# Altium footprint library Control_Board_Model_C201.PcbLib: 124 footprints (part 4 of 8)
Each footprint in its own frame and in the unit in brackets; x right, y up, seen from the top. Pads: shape width x height; smd on the part's side, far side on the other; paste and mask are expansions set on the pad; w line width, h text height; cw(c..) or ccw(c..) is an arc to the next point about the centre after c.
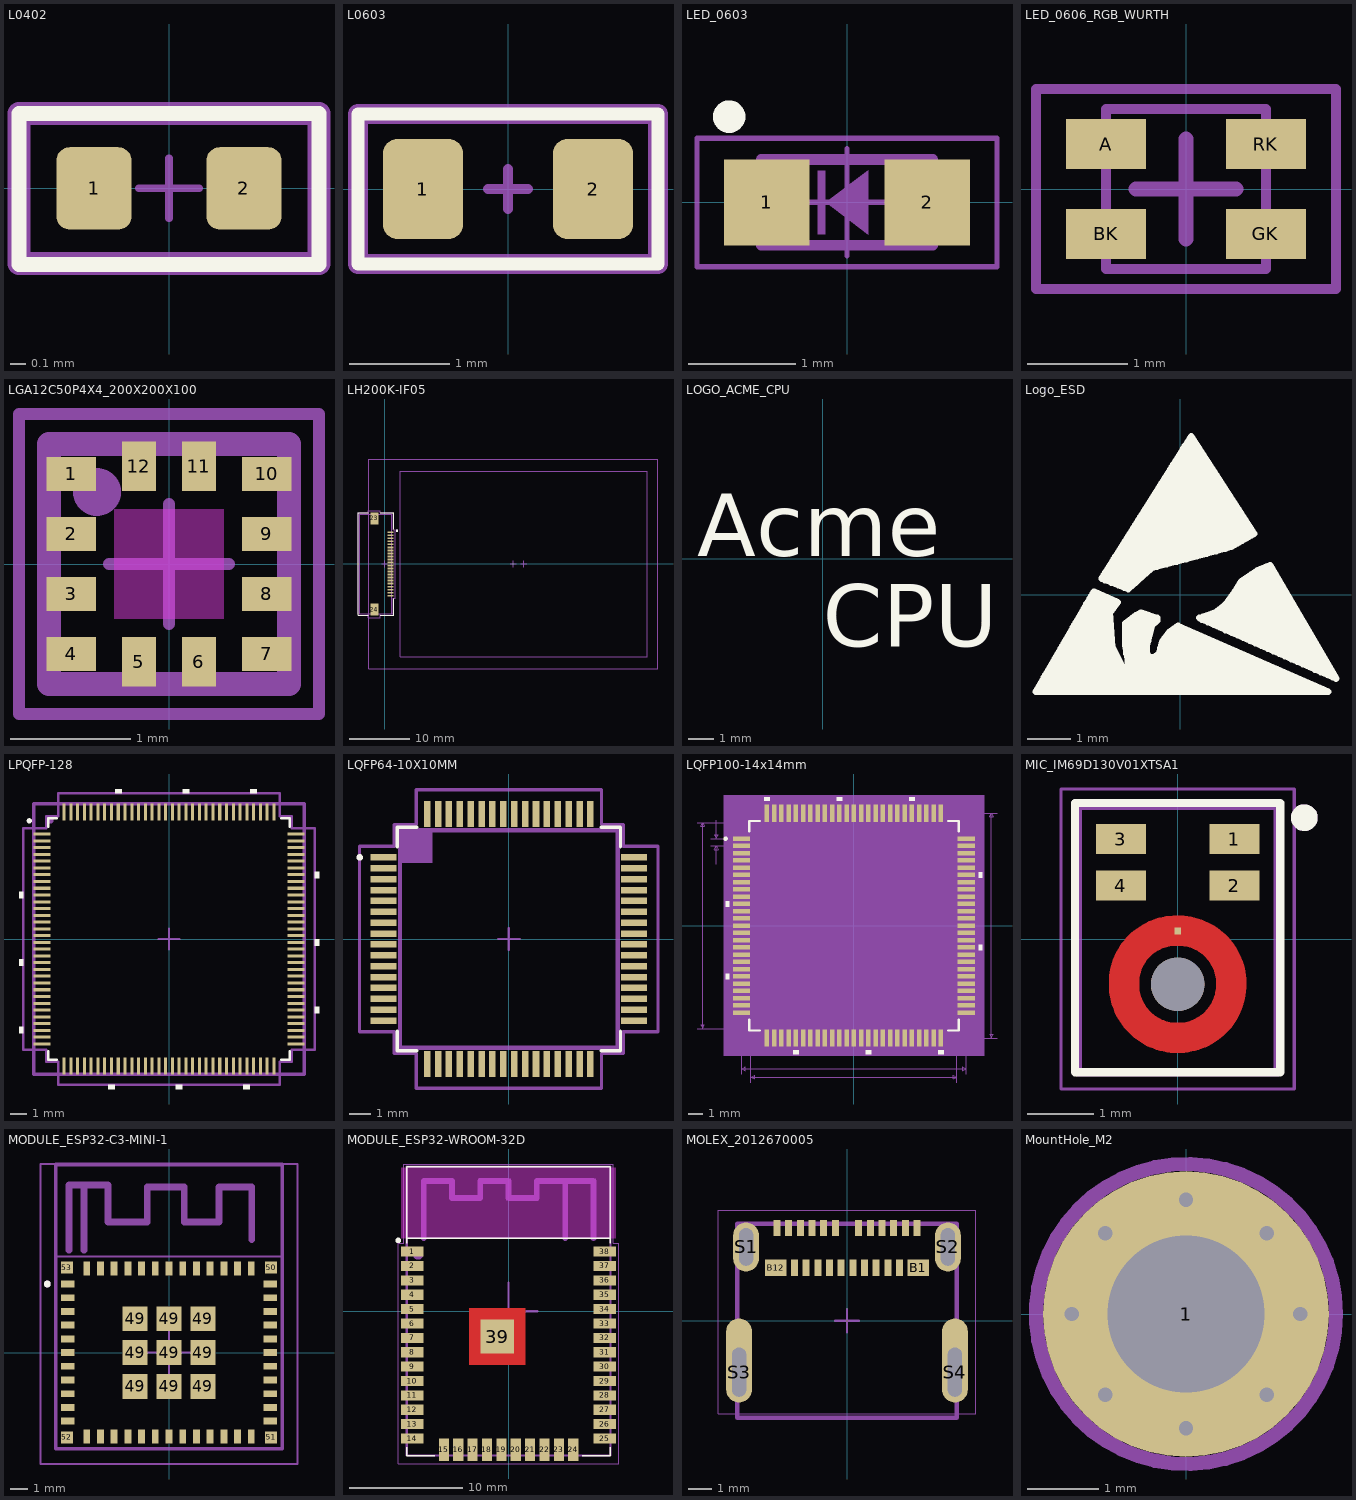
[diagram p3: the footprints below, top view; thin cyan lines are the x and y axes]

## L0402 [mm]
height 0.5
pads (2):
  rrect35% 0.5x0.55 smd: 1(-0.5,0) 2(0.5,0)
Top Overlay:
  lines w0.1: -1,-0.508 1,-0.508 1,0.5 -1,0.5 -1,-0.508
Mechanical 14:
  lines w0.152: -1,-0.5 -1,0.5 1,0.5 1,-0.5 -1,-0.5
  text ".Designator" at -0.8,-0.2 h0.5
Mechanical 15:
  lines w0.05: -1,-0.5 1,-0.5 1,0.5 -1,0.5 -1,-0.5
  lines w0.051: -0.2,0 0.2,0 ; 0,-0.2 0,0.2
3D body "RC0402N.step": height 0.71, standoff 0, extent -0.533,-0.254 0.533,0.254

## L0603 [mm]
pads (2):
  rrect35% 0.8x1 smd: 1(-0.85,0) 2(0.85,0)
Top Overlay:
  lines w0.127: -1.5,-0.75 1.5,-0.75 1.5,0.75 -1.5,0.75 -1.5,-0.75
Mechanical 14:
  lines w0.2: -1.5,-0.75 -1.5,0.75 1.5,0.75 1.5,-0.75 -1.5,-0.75
  text ".Designator" at -1,-0.2 h0.5
Mechanical 15:
  lines w0.1: -0.2,0 0.2,0 ; 0,-0.2 0,0.2 ; -1.5,-0.75 1.5,-0.75 1.5,0.75 -1.5,0.75 -1.5,-0.75
3D body "IND_1608.step": height 0.8, standoff 0, extent -0.8,-0.4 0.8,0.4

## LED_0603 [mm] "LED Indication - Discrete 0603"
height 0.55
pads (2):
  rect 0.8x0.8 smd: 1(-0.75,0) 2(0.75,0)
Top Overlay:
  circle w0.203: c-1.1,0.8 r0.05
Mechanical 14:
  rectangle: -0.275,-0.3 -0.2,0.3
  region: -0.2,0 0.2,0.3 0.2,-0.3
  lines w0.1: -0.8,-0.4 0.8,-0.4 0.8,0.4 -0.8,0.4 -0.8,-0.4
  text "'.Designator'" at -0.9,0.7 h0.5
Mechanical 15:
  lines w0.05: -0.5,0 0.5,0 ; 0,-0.5 0,0.5 ; -1.4,-0.6 -1.4,0.6 1.4,0.6 1.4,-0.6 -1.4,-0.6
3D body "LTST-C191KGKT--3DModel-STEP-56544.STEP": height 0.55, standoff 0, extent -0.8,-0.4 0.8,0.4

## LED_0606_RGB_WURTH [mm] "Chip; Body 1.6 x 1.6 mm (LxW typ) WURTH"
height 0.55
pads (4):
  rect 0.8x0.5 smd: A(-0.8,0.45) BK(-0.8,-0.45) GK(0.8,-0.45) RK(0.8,0.45)
Mechanical 14:
  lines w0.1: -0.8,-0.8 -0.8,0.8 0.8,0.8 0.8,-0.8 -0.8,-0.8
  text "A" at -1.3,0.2 h0.5
  text ".Designator" at -1,1.1 h0.5
Mechanical 15:
  lines w0.1: -1.5,-1 1.5,-1 1.5,1 -1.5,1 -1.5,-1
  lines w0.152: -0.5,0 0.5,0 ; 0,-0.5 0,0.5
3D body "STEP-WL-SFCW-0606-rev1.stp": height 0.4, standoff 0, extent -0.8,-0.8 0.8,0.8

## LGA12C50P4X4_200X200X100 [mm] "LGA, 12-Leads, Body 2.00x2.00mmx1.00mm, Pitch 0.50mm"
height 1
pads (12):
  rect 0.41x0.28 smd mask+0.05: 1(-0.815,0.75) 2(-0.815,0.25) 3(-0.815,-0.25) 4(-0.815,-0.75) 7(0.815,-0.75) 8(0.815,-0.25) 9(0.815,0.25) 10(0.815,0.75)
  rect 0.28x0.41 smd mask+0.05: 5(-0.25,-0.815) 6(0.25,-0.815) 11(0.25,0.815) 12(-0.25,0.815)
Top Layer keep-out:
  rectangle: -0.457,-0.457 0.457,0.457
Mechanical 14:
  circle w0.2: c-0.6,0.6 r0.1
  lines w0.2: -1,-1 1,-1 1,1 -1,1 -1,-1
  text "'.Designator'" at -0.6,-0.3 h0.5
Mechanical 15:
  lines w0.1: -0.5,0 0.5,0 ; 0,-0.5 0,0.5 ; -1.25,-1.25 1.25,-1.25 1.25,1.25 -1.25,1.25 -1.25,-1.25
3D body "LGA12C50P4X4_200X200X100.step": height 1, standoff 0, extent -1.038,-1.038 1.038,1.038

## LH200K-IF05 [mm] "TFT LCD MODULE"
height 7
pads (24):
  rect 1x0.3 smd mask+0.05: 1(1,-5.25) 2(1,-4.75) 3(1,-4.25) 4(1,-3.75) 5(1,-3.25) 6(1,-2.75) 7(1,-2.25) 8(1,-1.75) 9(1,-1.25) 10(1,-0.75) 11(1,-0.25) 12(1,0.25) 13(1,0.75) 14(1,1.25) 15(1,1.75) 16(1,2.25) 17(1,2.75) 18(1,3.25) 19(1,3.75) 20(1,4.25) 21(1,4.75) 22(1,5.25)
  rect 1.3x2 smd mask+0.05: 23(-1.7,7.55) 24(-1.7,-7.55)
Top Overlay:
  circle w0.2: c2.046,5.5 r0.1
  lines w0.152: -2.706,-8.5 -4.4,-8.5 -4.4,8.5 -2.706,8.5 ; -0.694,-8.5 1.5,-8.5 1.5,-5.761 ; -0.694,8.5 1.5,8.5 1.5,5.761
Mechanical 14:
  circle w0.2: c2.046,5.5 r0.1
  lines w0.2: -4.15,-8.25 -4.15,8.25 1.15,8.25 1.15,-8.25 -4.15,-8.25
  text "1" at -0.062,-5.772 h1
  text "22" at -0.316,7.436 h1
Mechanical 15:
  lines w0.1: -0.5,0 0.5,0 ; 0,-0.5 0,0.5
  lines w0.152: -4.363,-8.204 -4.363,8.5 -2.7,8.5 -2.7,8.807 -0.7,8.807 -0.7,8.5 1.454,8.5 1.454,5.682 1.775,5.682 1.775,-5.682 1.454,-5.682 1.454,-8.204 -0.7,-8.204 -0.7,-8.9 -2.7,-8.9 -2.7,-8.204 -4.363,-8.204
Mechanical 19:
  lines w0.2: 20.8,0 21.8,0 ; 21.3,-0.5 21.3,0.5 ; 22.5,0 23.5,0 ; 23,-0.5 23,0.5 ; -2.6,-17.3 45.2,-17.3 45.2,17.3 -2.6,17.3 -2.6,-17.3 ; 2.6,-15.3 43.4,-15.3 43.4,15.3 2.6,15.3 2.6,-15.3
  text "Center of the panel" at 19.6,-9.1 h1
  text "Center of the screen" at 23.6,-8.9 h1
  text "Top Left Corner" at 41.8,-14.8 h1
3D body "5051102291.stp": height 1.88, standoff -0.02, extent -4.154,-8.25 1.146,8.25
3D body: height -6, standoff -8, extent -2.6,-17.3 45.2,17.3

## LOGO_ACME_CPU [mm]
Top Overlay:
  text "Acme" at -5,0.1 h2.5
  text "CPU" at 0,-3.5 h2.5

## Logo_ESD [mm] "Silk only"
Top Overlay:
  drawing of 211 lines, arcs and shapes, not listed

## LPQFP-128 [mm]
pads (128):
  rect 1x0.18 smd mask+0.05: 1(-7.5,6.2) 2(-7.5,5.8) 3(-7.5,5.4) 4(-7.5,5) 5(-7.5,4.6) 6(-7.5,4.2) 7(-7.5,3.8) 8(-7.5,3.4) 9(-7.5,3) 10(-7.5,2.6) 11(-7.5,2.2) 12(-7.5,1.8) 13(-7.5,1.4) 14(-7.5,1) 15(-7.5,0.6) 16(-7.5,0.2) 17(-7.5,-0.2) 18(-7.5,-0.6) 19(-7.5,-1) 20(-7.5,-1.4) 21(-7.5,-1.8) 22(-7.5,-2.2) 23(-7.5,-2.6) 24(-7.5,-3) 25(-7.5,-3.4) 26(-7.5,-3.8) 27(-7.5,-4.2) 28(-7.5,-4.6) 29(-7.5,-5) 30(-7.5,-5.4) 31(-7.5,-5.8) 32(-7.5,-6.2) 65(7.5,-6.2) 66(7.5,-5.8) 67(7.5,-5.4) 68(7.5,-5) 69(7.5,-4.6) 70(7.5,-4.2) 71(7.5,-3.8) 72(7.5,-3.4) 73(7.5,-3) 74(7.5,-2.6) 75(7.5,-2.2) 76(7.5,-1.8) 77(7.5,-1.4) 78(7.5,-1) 79(7.5,-0.6) 80(7.5,-0.2) 81(7.5,0.2) 82(7.5,0.6) 83(7.5,1) 84(7.5,1.4) 85(7.5,1.8) 86(7.5,2.2) 87(7.5,2.6) 88(7.5,3) 89(7.5,3.4) 90(7.5,3.8) 91(7.5,4.2) 92(7.5,4.6) 93(7.5,5) 94(7.5,5.4) 95(7.5,5.8) 96(7.5,6.2)
  rect 0.18x1 smd mask+0.05: 33(-6.2,-7.5) 34(-5.8,-7.5) 35(-5.4,-7.5) 36(-5,-7.5) 37(-4.6,-7.5) 38(-4.2,-7.5) 39(-3.8,-7.5) 40(-3.4,-7.5) 41(-3,-7.5) 42(-2.6,-7.5) 43(-2.2,-7.5) 44(-1.8,-7.5) 45(-1.4,-7.5) 46(-1,-7.5) 47(-0.6,-7.5) 48(-0.2,-7.5) 49(0.2,-7.5) 50(0.6,-7.5) 51(1,-7.5) 52(1.4,-7.5) 53(1.8,-7.5) 54(2.2,-7.5) 55(2.6,-7.5) 56(3,-7.5) 57(3.4,-7.5) 58(3.8,-7.5) 59(4.2,-7.5) 60(4.6,-7.5) 61(5,-7.5) 62(5.4,-7.5) 63(5.8,-7.5) 64(6.2,-7.5) 97(6.2,7.5) 98(5.8,7.5) 99(5.4,7.5) 100(5,7.5) 101(4.6,7.5) 102(4.2,7.5) 103(3.8,7.5) 104(3.4,7.5) 105(3,7.5) 106(2.6,7.5) 107(2.2,7.5) 108(1.8,7.5) 109(1.4,7.5) 110(1,7.5) 111(0.6,7.5) 112(0.2,7.5) 113(-0.2,7.5) 114(-0.6,7.5) 115(-1,7.5) 116(-1.4,7.5) 117(-1.8,7.5) 118(-2.2,7.5) 119(-2.6,7.5) 120(-3,7.5) 121(-3.4,7.5) 122(-3.8,7.5) 123(-4.2,7.5) 124(-4.6,7.5) 125(-5,7.5) 126(-5.4,7.5) 127(-5.8,7.5) 128(-6.2,7.5)
Top Overlay:
  circle w0.152: c-8.255,6.985 r0.076
  region: -2.8,8.611 -3.181,8.611 -3.181,8.865 -2.8,8.865
  region: 1.187,8.611 0.806,8.611 0.806,8.865 1.187,8.865
  region: 5.175,8.611 4.794,8.611 4.794,8.865 5.175,8.865
  region: 8.611,3.979 8.865,3.979 8.865,3.598 8.611,3.598
  region: 8.611,-0.009 8.865,-0.009 8.865,-0.39 8.611,-0.39
  region: 8.611,-3.997 8.865,-3.997 8.865,-4.378 8.611,-4.378
  region: 4.776,-8.611 4.395,-8.611 4.395,-8.865 4.776,-8.865
  region: 0.789,-8.611 0.408,-8.611 0.408,-8.865 0.789,-8.865
  region: -3.199,-8.611 -3.58,-8.611 -3.58,-8.865 -3.199,-8.865
  region: -8.611,-5.193 -8.865,-5.193 -8.865,-5.574 -8.611,-5.574
  region: -8.611,-1.205 -8.865,-1.205 -8.865,-1.586 -8.611,-1.586
  region: -8.611,2.783 -8.865,2.783 -8.865,2.402 -8.611,2.402
  lines w0.152: -7.125,-6.628 -7.125,-7.125 -6.628,-7.125 ; -7.125,6.628 -7.125,7.125 -6.628,7.125 ; 6.628,-7.125 7.125,-7.125 7.125,-6.628 ; 6.628,7.125 7.125,7.125 7.125,6.628
Mechanical 14:
  circle w0.152: c-6.985,6.985 r0.076
  lines w0.2: -8.001,-8.001 -8.001,8.001 8.001,8.001 8.001,-8.001 -8.001,-8.001
  text "'.Designator'" at -1,-0.2 h0.5
Mechanical 15:
  lines w0.1: -0.635,0 0.635,0 ; 0,-0.635 0,0.635
  lines w0.152: -8.611,-6.549 -8.611,6.549 -7.252,6.549 -7.252,7.252 -6.549,7.252 -6.549,8.611 6.549,8.611 6.549,7.252 7.252,7.252 7.252,6.549 8.611,6.549 8.611,-6.549 7.252,-6.549 7.252,-7.252 6.549,-7.252 6.549,-8.611 -6.549,-8.611 -6.549,-7.252 -7.252,-7.252 -7.252,-6.549 -8.611,-6.549
3D body "LPQFP-128.step": height 1.6, standoff 0, extent -8.001,-8.001 8.001,8.001

## LQFP64-10X10MM [mm]
pads (64):
  rect 1.2x0.3 smd: 1(-5.75,3.75) 2(-5.75,3.25) 3(-5.75,2.75) 4(-5.75,2.25) 5(-5.75,1.75) 6(-5.75,1.25) 7(-5.75,0.75) 8(-5.75,0.25) 9(-5.75,-0.25) 10(-5.75,-0.75) 11(-5.75,-1.25) 12(-5.75,-1.75) 13(-5.75,-2.25) 14(-5.75,-2.75) 15(-5.75,-3.25) 16(-5.75,-3.75) 33(5.75,-3.75) 34(5.75,-3.25) 35(5.75,-2.75) 36(5.75,-2.25) 37(5.75,-1.75) 38(5.75,-1.25) 39(5.75,-0.75) 40(5.75,-0.25) 41(5.75,0.25) 42(5.75,0.75) 43(5.75,1.25) 44(5.75,1.75) 45(5.75,2.25) 46(5.75,2.75) 47(5.75,3.25) 48(5.75,3.75)
  rect 0.3x1.2 smd: 17(-3.75,-5.75) 18(-3.25,-5.75) 19(-2.75,-5.75) 20(-2.25,-5.75) 21(-1.75,-5.75) 22(-1.25,-5.75) 23(-0.75,-5.75) 24(-0.25,-5.75) 25(0.25,-5.75) 26(0.75,-5.75) 27(1.25,-5.75) 28(1.75,-5.75) 29(2.25,-5.75) 30(2.75,-5.75) 31(3.25,-5.75) 32(3.75,-5.75) 49(3.75,5.75) 50(3.25,5.75) 51(2.75,5.75) 52(2.25,5.75) 53(1.75,5.75) 54(1.25,5.75) 55(0.75,5.75) 56(0.25,5.75) 57(-0.25,5.75) 58(-0.75,5.75) 59(-1.25,5.75) 60(-1.75,5.75) 61(-2.25,5.75) 62(-2.75,5.75) 63(-3.25,5.75) 64(-3.75,5.75)
Top Overlay:
  circle w0.152: c-6.851,3.75 r0.076
  lines w0.152: -5.131,-4.234 -5.131,-5.131 -4.234,-5.131 ; -5.131,4.234 -5.131,5.131 -4.234,5.131 ; 4.234,-5.131 5.131,-5.131 5.131,-4.234 ; 4.234,5.131 5.131,5.131 5.131,4.234
Mechanical 14:
  rectangle: -5,3.5 -3.5,5
  lines w0.2: -5,-5 5,-5 5,5 -5,5 -5,-5
  text "'.Designator'" at -1.1,-0.2 h0.5
Mechanical 15:
  lines w0.1: -0.5,0 0.5,0 ; 0,-0.5 0,0.5
  lines w0.152: -6.855,-4.258 -5.258,-4.258 -5.258,-5.258 -4.258,-5.258 -4.258,-6.855 4.258,-6.855 4.258,-5.258 5.258,-5.258 5.258,-4.258 6.855,-4.258 6.855,4.258 5.258,4.258 5.258,5.258 4.258,5.258 4.258,6.855 -4.258,6.855 -4.258,5.258 -5.258,5.258 -5.258,4.258 -6.855,4.258 -6.855,-4.258
3D body "LQFP64-10x10mm.stp": height 1.6, standoff 0, extent -5.997,-5.997 5.997,5.997

## LQFP100-14x14mm [mil]
pads (100):
  rect 47x12 smd paste+0 mask+0: 1(-305.12,236.22) 2(-305.12,216.54) 3(-305.12,196.85) 4(-305.12,177.17) 5(-305.12,157.48) 6(-305.12,137.8) 7(-305.12,118.11) 8(-305.12,98.43) 9(-305.12,78.74) 10(-305.12,59.06) 11(-305.12,39.37) 12(-305.12,19.69) 13(-305.12,0) 14(-305.12,-19.68) 15(-305.12,-39.37) 16(-305.12,-59.06) 17(-305.12,-78.74) 18(-305.12,-98.43) 19(-305.12,-118.11) 20(-305.12,-137.8) 21(-305.12,-157.48) 22(-305.12,-177.17) 23(-305.12,-196.85) 24(-305.12,-216.54) 25(-305.12,-236.22) 51(305.12,-236.22) 52(305.12,-216.54) 53(305.12,-196.85) 54(305.12,-177.17) 55(305.12,-157.48) 56(305.12,-137.8) 57(305.12,-118.11) 58(305.12,-98.43) 59(305.12,-78.74) 60(305.12,-59.06) 61(305.12,-39.37) 62(305.12,-19.68) 63(305.12,0) 64(305.12,19.68) 65(305.12,39.37) 66(305.12,59.06) 67(305.12,78.74) 68(305.12,98.43) 69(305.12,118.11) 70(305.12,137.8) 71(305.12,157.48) 72(305.12,177.17) 73(305.12,196.85) 74(305.12,216.54) 75(305.12,236.22)
  rect 12x47 smd paste+0 mask+0: 26(-236.22,-305.12) 27(-216.54,-305.12) 28(-196.85,-305.12) 29(-177.17,-305.12) 30(-157.48,-305.12) 31(-137.8,-305.12) 32(-118.11,-305.12) 33(-98.43,-305.12) 34(-78.74,-305.12) 35(-59.06,-305.12) 36(-39.37,-305.12) 37(-19.68,-305.12) 38(0,-305.12) 39(19.68,-305.12) 40(39.37,-305.12) 41(59.06,-305.12) 42(78.74,-305.12) 43(98.43,-305.12) 44(118.11,-305.12) 45(137.8,-305.12) 46(157.48,-305.12) 47(177.17,-305.12) 48(196.85,-305.12) 49(216.54,-305.12) 50(236.22,-305.12) 76(236.22,305.12) 77(216.54,305.12) 78(196.85,305.12) 79(177.17,305.12) 80(157.48,305.12) 81(137.8,305.12) 82(118.11,305.12) 83(98.43,305.12) 84(78.74,305.12) 85(59.06,305.12) 86(39.37,305.12) 87(19.68,305.12) 88(0,305.12) 89(-19.68,305.12) 90(-39.37,305.12) 91(-59.06,305.12) 92(-78.74,305.12) 93(-98.43,305.12) 94(-118.11,305.12) 95(-137.8,305.12) 96(-157.48,305.12) 97(-177.17,305.12) 98(-196.85,305.12) 99(-216.54,305.12) 100(-236.22,305.12)
Top Overlay:
  circle w6: c-348.46,236.22 r3
  region: -228.72,338.62 -243.72,338.62 -243.72,348.62 -228.72,348.62
  region: -31.87,338.62 -46.87,338.62 -46.87,348.62 -31.87,348.62
  region: 164.98,338.62 149.98,338.62 149.98,348.62 164.98,348.62
  region: 338.62,145.3 348.62,145.3 348.62,130.3 338.62,130.3
  region: 338.62,-51.56 348.62,-51.56 348.62,-66.56 338.62,-66.56
  region: 243.72,-338.62 228.72,-338.62 228.72,-348.62 243.72,-348.62
  region: 46.87,-338.62 31.87,-338.62 31.87,-348.62 46.87,-348.62
  region: -149.98,-338.62 -164.98,-338.62 -164.98,-348.62 -149.98,-348.62
  region: -338.62,-130.3 -348.62,-130.3 -348.62,-145.3 -338.62,-145.3
  region: -338.62,66.56 -348.62,66.56 -348.62,51.56 -338.62,51.56
  lines w6: -284.5,-255.32 -284.5,-284.5 -255.32,-284.5 ; -284.5,255.32 -284.5,284.5 -255.32,284.5 ; 255.32,-284.5 284.5,-284.5 284.5,-255.32 ; 255.32,284.5 284.5,284.5 284.5,255.32
Mechanical 5:
  region: 353.62,-353.62 -353.62,-353.62 -353.62,353.62 353.62,353.62
Mechanical 7:
  lines w1: -426.12,-279.5 -236.22,-279.5 ; -426.12,279.5 -236.22,279.5 ; -388.62,216.54 -305.12,216.54 ; -388.62,236.22 -305.12,236.22 ; -373.62,166.54 -373.62,216.54 ; -373.62,286.22 -373.62,236.22 ; -305.12,-403.62 -305.12,-224.22 ; -279.5,-426.12 -279.5,-236.22 ; 248.22,-305.12 388.62,-305.12 ; 248.22,305.12 388.62,305.12 ; 279.5,-426.12 279.5,-236.22 ; 305.12,-403.62 305.12,-224.22 ; -411.12,-279.5 -406.12,-269.5 -416.12,-269.5 -411.12,-279.5 ; -411.12,-279.5 -411.12,279.5 ; -411.12,279.5 -406.12,269.5 -416.12,269.5 -411.12,279.5 ; -373.62,216.54 -368.62,206.54 -378.62,206.54 -373.62,216.54 ; -373.62,236.22 -368.62,246.22 -378.62,246.22 -373.62,236.22 ; -305.12,-388.62 -295.12,-393.62 -295.12,-383.62 -305.12,-388.62 ; -305.12,-388.62 305.12,-388.62 ; -279.5,-411.12 -269.5,-416.12 -269.5,-406.12 -279.5,-411.12 ; -279.5,-411.12 279.5,-411.12 ; 279.5,-411.12 269.5,-416.12 269.5,-406.12 279.5,-411.12 ; 305.12,-388.62 295.12,-393.62 295.12,-383.62 305.12,-388.62 ; 373.62,-305.12 378.62,-295.12 368.62,-295.12 373.62,-305.12 ; 373.62,-305.12 373.62,305.12 ; 373.62,305.12 378.62,295.12 368.62,295.12 373.62,305.12
  text "0.559in/14.199mm" at -631.12,-12.5 h25
  text "0.559in/14.199mm" at -100,-456.12 h25
  text "0.61in/15.5mm" at -81.25,-433.62 h25
  text "0.61in/15.5mm" at 393.62,-12.5 h25
  text "0.02in/0.5mm" at -543.62,213.88 h25
  text "Alt 2 Padstyle: OX90Y60D30P" at -337.5,-828.62 h50
  text "Alt 1 Padstyle: OX60Y90D30P" at -337.5,-768.62 h50
  text "Default Padstyle: RX47Y12D0T" at -350,-588.62 h50
Mechanical 13:
  circle w0: c-256.62,236.22 r3
  lines w1: -279.5,229.5 -229.5,279.5 ; -279.5,-279.5 -279.5,279.5 279.5,279.5 279.5,-279.5 -279.5,-279.5
Mechanical 15:
  region: -256.22,-289.5 -289.5,-289.5 -289.5,-256.22 -348.62,-256.22 -348.62,256.22 -289.5,256.22 -289.5,289.5 -256.22,289.5 -256.22,348.62 256.22,348.62 256.22,289.5 289.5,289.5 289.5,256.22 348.62,256.22 348.62,-256.22 289.5,-256.22 289.5,-289.5 256.22,-289.5 256.22,-348.62 -256.22,-348.62
  lines w6: -348.62,-256.22 -348.62,256.22 -289.5,256.22 -289.5,289.5 -256.22,289.5 -256.22,348.62 256.22,348.62 256.22,289.5 289.5,289.5 289.5,256.22 348.62,256.22 348.62,-256.22 289.5,-256.22 289.5,-289.5 256.22,-289.5 256.22,-348.62 -256.22,-348.62 -256.22,-289.5 -289.5,-289.5 -289.5,-256.22 -348.62,-256.22
3D body: height 10, standoff 0, extent 0,0 10,10
3D body "LQFP100-14x14mm.step": height 63.11, standoff 0, extent -314.84,-314.84 314.84,314.84

## MIC_IM69D130V01XTSA1 [mm]
pads (6):
  rect 0.75x0.45 smd paste-1: 1(0.85,1.5) 2(0.85,0.8) 3(-0.85,1.5) 4(-0.85,0.8)
  rect 0.1x0.1 smd paste-1 mask+0: 5(0,0.12)
  round 0.8 hole 0.8 unplated: ""(0,-0.68)
Top Layer:
  region: 247 vertices and 0 holes, not listed, extent -1.03,-1.71 1.03,0.35
Top Overlay:
  circle w0.2: c1.9,1.82 r0.1
  lines w0.127: -1.54,-2 -1.54,2.04 1.54,2.04 1.54,-2 -1.54,-2
Top Paste:
  drawing of 10 lines, arcs and shapes, not listed
Top Solder:
  circle w0: c0,-0.68 r1.13
Mechanical 13:
  circle w0.2: c1.9,1.82 r0.1
  lines w0.127: -1.5,-2 1.5,-2 1.5,2 -1.5,2 -1.5,-2
Mechanical 15:
  lines w0.05: -1.75,-2.25 1.75,-2.25 1.75,2.25 -1.75,2.25 -1.75,-2.25
3D body "IM69D130V01XTSA1--3DModel-STEP-56544.STEP": height 1.3, standoff 0, extent -1.5,-2 1.5,2

## MODULE_ESP32-C3-MINI-1 [mm]
height 2.4
pads (61):
  rect 0.8x0.4 smd: 1(-5.9,4) 2(-5.9,3.2) 3(-5.9,2.4) 4(-5.9,1.6) 5(-5.9,0.8) 6(-5.9,0) 7(-5.9,-0.8) 8(-5.9,-1.6) 9(-5.9,-2.4) 10(-5.9,-3.2) 11(-5.9,-4) 25(5.9,-4) 26(5.9,-3.2) 27(5.9,-2.4) 28(5.9,-1.6) 29(5.9,-0.8) 30(5.9,0) 31(5.9,0.8) 32(5.9,1.6) 33(5.9,2.4) 34(5.9,3.2) 35(5.9,4)
  rect 0.4x0.8 smd: 12(-4.8,-4.9) 13(-4,-4.9) 14(-3.2,-4.9) 15(-2.4,-4.9) 16(-1.6,-4.9) 17(-0.8,-4.9) 18(0,-4.9) 19(0.8,-4.9) 20(1.6,-4.9) 21(2.4,-4.9) 22(3.2,-4.9) 23(4,-4.9) 24(4.8,-4.9) 36(4.8,4.9) 37(4,4.9) 38(3.2,4.9) 39(2.4,4.9) 40(1.6,4.9) 41(0.8,4.9) 42(0,4.9) 43(-0.8,4.9) 44(-1.6,4.9) 45(-2.4,4.9) 46(-3.2,4.9) 47(-4,4.9) 48(-4.8,4.9)
  rect 1.45x1.45 smd: 49(-1.975,-1.975) 49(-1.975,0) 49(-1.975,1.975) 49(0,-1.975) 49(0,0) 49(0,1.975) 49(1.975,-1.975) 49(1.975,0) 49(1.975,1.975)
  rect 0.7x0.7 smd: 50(5.95,4.95) 51(5.95,-4.95) 52(-5.95,-4.95) 53(-5.95,4.95)
Top Overlay:
  circle w0.2: c-7.1,4 r0.1
Mechanical 14:
  circle w0.2: c-7.1,4 r0.1
  lines w0.2: -6.6,-5.6 -6.6,11 6.6,11 6.6,-5.6 -6.6,-5.6
Mechanical 15:
  lines w0.1: -1.27,0 1.27,0 ; 0,-1.27 0,1.27 ; -7.5,-6.5 -7.5,11 7.5,11 7.5,-6.5 -7.5,-6.5 ; -6.6,5.6 6.6,5.6 6.6,10.9 -6.6,10.9 -6.6,5.6
  lines w0.4: -5.842,5.969 -5.842,9.779 -5.715,9.779 -3.556,9.779 -3.556,7.62 -1.27,7.62 -1.27,9.652 -1.143,9.652 0.889,9.652 0.889,7.62 2.921,7.62 2.921,9.652 4.826,9.652 4.826,6.604 ; -4.953,5.969 -4.953,9.652
3D body: height 2.4, standoff 0.8, extent -5.975,-4.975 5.975,4.975
3D body: height 0.8, standoff 0, extent -6.6,-5.6 6.6,11

## MODULE_ESP32-WROOM-32D [mm]
pads (39):
  rect 2x0.9 smd: 1(-8.5,5.26) 2(-8.5,3.99) 3(-8.5,2.72) 4(-8.5,1.45) 5(-8.5,0.18) 6(-8.5,-1.09) 7(-8.5,-2.36) 8(-8.5,-3.63) 9(-8.5,-4.9) 10(-8.5,-6.17) 11(-8.5,-7.44) 12(-8.5,-8.71) 13(-8.5,-9.98) 14(-8.5,-11.25) 25(8.5,-11.25) 26(8.5,-9.98) 27(8.5,-8.71) 28(8.5,-7.44) 29(8.5,-6.17) 30(8.5,-4.9) 31(8.5,-3.63) 32(8.5,-2.36) 33(8.5,-1.09) 34(8.5,0.18) 35(8.5,1.45) 36(8.5,2.72) 37(8.5,3.99) 38(8.5,5.26)
  rect 0.9x2 smd: 15(-5.715,-12.25) 16(-4.445,-12.25) 17(-3.175,-12.25) 18(-1.905,-12.25) 19(-0.635,-12.25) 20(0.635,-12.25) 21(1.905,-12.25) 22(3.175,-12.25) 23(4.445,-12.25) 24(5.715,-12.25)
  rect 3x3 smd: 39(-1,-2.24)
Top Layer:
  rectangle: -3.5,-4.74 1.5,0.26
Top Overlay:
  circle w0.3: c-9.75,6.25 r0.1
  lines w0.127: -9,-12 -9,-12.75 -6.5,-12.75 ; -9,6 -9,12.75 9,12.75 9,6 ; -8.96,6.45 8.96,6.45 ; 6.5,-12.75 9,-12.75 9,-12
Top Paste:
  rectangle: -3.5,-4.74 1.5,0.26
  region: -2.584,-0.659 0.581,-0.659 0.581,-3.825 -2.584,-3.825
Top Solder:
  rectangle: -3.601,-4.841 1.602,0.361
Keep-Out Layer:
  rectangle: -9.5,6.4 9.5,12.7
Mechanical 14:
  circle w0.5: c-8,5 r0.2
  lines w0.152: -8.96,6.45 8.96,6.45
  lines w0.2: -9,-12.75 -9,12.75 9,12.75 9,-12.75 -9,-12.75
  lines w0.5: -7.5,6.45 -7.5,11.5 -5,11.5 -5,10 -2.5,10 -2.5,11.5 0,11.5 0,10 2.5,10 2.5,11.5 5,11.5 5,6.45 ; 3,11.5 7.5,11.5 7.5,6.45
  text ".Designator" at -1.3,-0.2 h0.5
Mechanical 15:
  lines w0.05: -9.75,-13.5 9.75,-13.5 9.75,6 9.25,6 9.25,13 -9.25,13 -9.25,6 -9.75,6 -9.75,-13.5
  lines w0.2: -2.54,0 2.54,0 ; 0,-2.54 0,2.54
3D body "ESP32-WROOM-32D--3DModel-STEP-56544.STEP": height 3.25, standoff 0, extent -9,-12.75 9,12.75

## MOLEX_2012670005 [mm] "USB-C (USB TYPE-C) USB 3.2 Gen 2 (USB 3.1 Gen 2, Superspeed + (USB 3.1)) Receptacle Connector 24 Position Surface Mount, Right Angle; Through Hole"
height 3.71
pads (28):
  rect 0.3x0.7 smd: A1(-3,3.97) A2(-2.5,3.97) A3(-2,3.97) A4(-1.5,3.97) A5(-1,3.97) A6(-0.5,3.97) A7(0.5,3.97) A8(1,3.97) A9(1.5,3.97) A10(2,3.97) A11(2.5,3.97) A12(3,3.97) B2(2.25,2.27) B3(1.75,2.27) B4(1.25,2.27) B5(0.75,2.27) B6(0.25,2.27) B7(-0.25,2.27) B8(-0.75,2.27) B9(-1.25,2.27) B10(-1.75,2.27) B11(-2.25,2.27)
  rect 0.9x0.7 smd: B1(3.05,2.27) B12(-3.05,2.27)
  oval 1.1x2.1 hole 0.6 slot 1.6 at 90 deg: S1(-4.32,3.16) S2(4.32,3.16)
  oval 1.1x3.6 hole 0.6 slot 2.1 at 90 deg copper offset 0,0.5: S3(-4.62,-2.2) S4(4.62,-2.2)
Mechanical 14:
  lines w0.2: -4.695,-4.15 4.695,-4.15 4.695,4.15 -4.695,4.15 -4.695,-4.15
  text "B1" at 3.11,1.09 h0.5
  text "B12" at -3.98,1.13 h0.5
  text "A12" at 2.69,4.55 h0.5
  text "A1" at -3.52,4.56 h0.5
  text "'.Designator'" at -0.78,-0.24 h0.5
Mechanical 15:
  lines w0.05: -5.5,-3.97 5.5,-3.97 5.5,4.73 -5.5,4.73 -5.5,-3.97
  lines w0.1: -0.5,0 0.5,0 ; 0,-0.5 0,0.5
3D body "2012670005.stp": height 3.72, standoff -2.29, extent -4.695,-4.15 4.695,4.15

## MountHole_M2 [mm] "Mount Hole M2"
height 0.025
pads (1):
  round 4 hole 2.2 paste-2 mask-2: 1(0,0)
via -1.131,1.131 diameter 0.55 hole 0.2
via 1.131,1.131 diameter 0.55 hole 0.2
via 1.131,-1.131 diameter 0.55 hole 0.2
via -1.131,-1.131 diameter 0.55 hole 0.2
via -1.6,0 diameter 0.55 hole 0.2
via 0,-1.6 diameter 0.55 hole 0.2
via 1.6,0 diameter 0.55 hole 0.2
via 0,1.6 diameter 0.55 hole 0.2
Top Solder:
  region: 0,2.1 0.207,2.1 0.613,2.019 0.995,1.861 1.339,1.631 1.631,1.339 1.861,0.995 2.019,0.613 2.1,0.207 2.1,0 2.1,-0.207 2.019,-0.613 1.861,-0.995 1.631,-1.339 1.339,-1.631 0.995,-1.861 0.613,-2.019 0.207,-2.1 0,-2.1 -0.207,-2.1 -0.612,-2.019 -0.995,-1.861 -1.339,-1.631 -1.631,-1.339 -1.861,-0.995 -2.019,-0.613 -2.1,-0.207 -2.1,0 -2.1,0.207 -2.019,0.613 -1.861,0.995 -1.631,1.339 -1.339,1.631 -0.995,1.861 -0.613,2.019 -0.207,2.1
Bottom Solder:
  region: 0,2.1 0.207,2.1 0.613,2.019 0.995,1.861 1.339,1.631 1.631,1.339 1.861,0.995 2.019,0.613 2.1,0.207 2.1,0 2.1,-0.207 2.019,-0.613 1.861,-0.995 1.631,-1.339 1.339,-1.631 0.995,-1.861 0.613,-2.019 0.207,-2.1 0,-2.1 -0.207,-2.1 -0.612,-2.019 -0.995,-1.861 -1.339,-1.631 -1.631,-1.339 -1.861,-0.995 -2.019,-0.613 -2.1,-0.207 -2.1,0 -2.1,0.207 -2.019,0.613 -1.861,0.995 -1.631,1.339 -1.339,1.631 -0.995,1.861 -0.613,2.019 -0.207,2.1
Mechanical 8:
  lines w0.2: -1,0 1,0 ; 0,-1 0,1
Mechanical 14:
  circle w0.2: c0,0 r2.1
  text "'.Designator'" at -0.381,-0.127 h0.5
Mechanical 15:
  lines w0.1: -1,0 1,0 ; 0,-1 0,1
3D body: height -0.09, standoff -0.1, extent -2,-2 2,2